# Altium footprint library SMD_Passive.PcbLib: 18 footprints (part 1 of 2)
Each footprint in its own frame and in the unit in brackets; x right, y up, seen from the top. Pads: shape width x height; smd on the part's side, far side on the other; paste and mask are expansions set on the pad; w line width, h text height; cw(c..) or ccw(c..) is an arc to the next point about the centre after c.
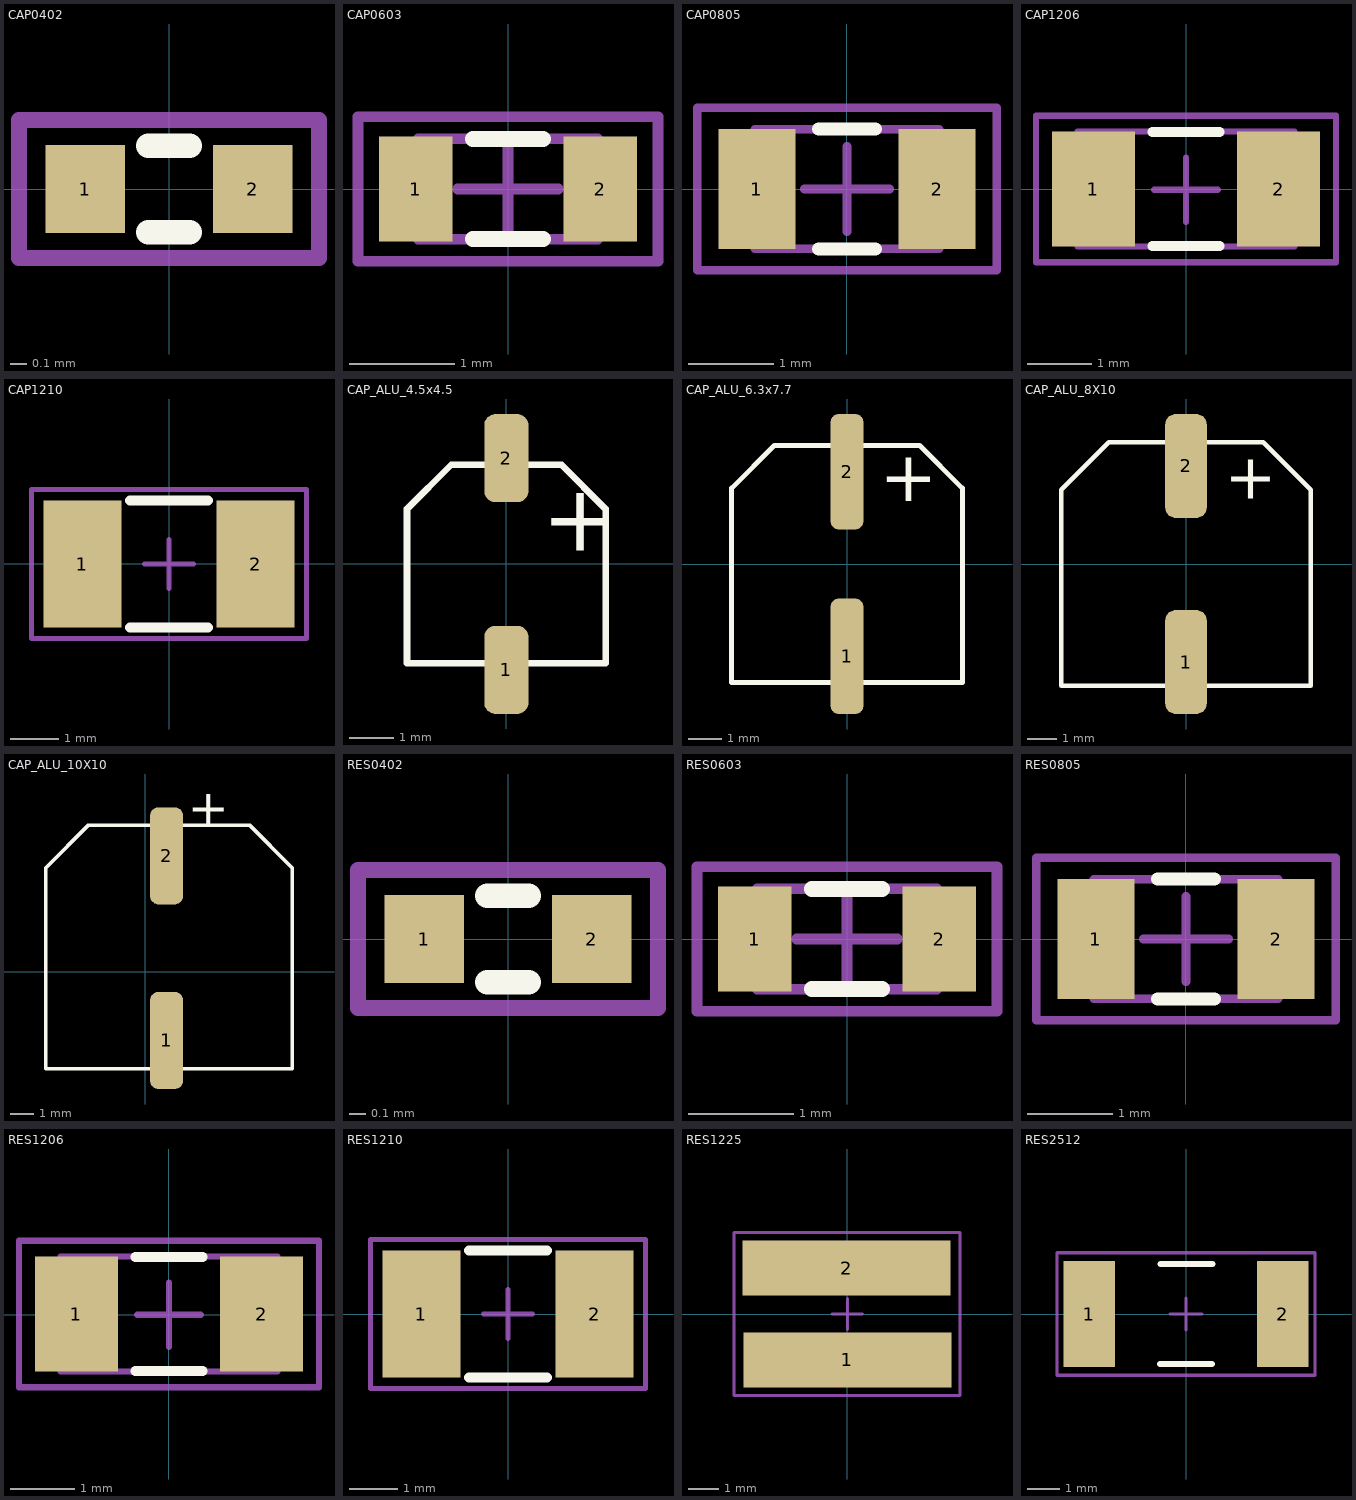
[diagram p0: the footprints below, top view; thin cyan lines are the x and y axes]

## CAP0402 [mm] "Chip Capacitor; Body 1.0 x 0.5 mm (LxW typ)"
height 0.55
pads (2):
  rect 0.5x0.55 smd: 1(-0.525,0) 2(0.525,0)
Top Overlay:
  lines w0.152: -0.13,-0.272 0.13,-0.272 ; -0.13,0.272 0.13,0.272
Mechanical 15:
  lines w0.1: -0.94,-0.432 0.94,-0.432 0.94,0.432 -0.94,0.432 -0.94,-0.432
3D body "User Library-0402(1005M) Cap.step": height 0.51, standoff 0, extent -0.508,-0.254 0.508,0.254

## CAP0603 [mm] "Chip Capacitor, Body 1.6x0.8mm, IPC Medium Density"
height 0.85
pads (2):
  rect 0.7x1 smd: 1(-0.875,0) 2(0.875,0)
Top Overlay:
  lines w0.152: -0.33,-0.475 0.33,-0.475 ; -0.33,0.475 0.33,0.475
Mechanical 13:
  lines w0.1: -0.85,-0.475 0.85,-0.475 0.85,0.475 -0.85,0.475 -0.85,-0.475
Mechanical 15:
  lines w0.1: -0.475,0 0.475,0 ; 0,-0.475 0,0.475 ; -1.422,-0.686 1.422,-0.686 1.422,0.686 -1.422,0.686 -1.422,-0.686
3D body "User Library-0603(1608M) Cap.step": height 0.79, standoff 0, extent -1,-0.394 1,0.394

## CAP0805 [mm] "Chip Capacitor, Body 2.0x1.3mm, IPC Medium Density"
height 1.1
pads (2):
  rect 0.9x1.4 smd: 1(-1.052,0) 2(1.052,0)
Top Overlay:
  lines w0.152: -0.33,-0.704 0.33,-0.704 ; -0.33,0.704 0.33,0.704
Mechanical 13:
  lines w0.1: -1.075,-0.7 1.075,-0.7 1.075,0.7 -1.075,0.7 -1.075,-0.7
Mechanical 15:
  lines w0.1: -0.5,0 0.5,0 ; 0,-0.5 0,0.5 ; -1.75,-0.95 1.75,-0.95 1.75,0.95 -1.75,0.95 -1.75,-0.95
3D body "User Library-0805(2012M) Cap.step": height 0.79, standoff 0, extent -1.254,-0.622 1.254,0.622

## CAP1206 [mm] "Chip Capacitor, Body 3.2x1.6mm, IPC Medium Density"
height 1.35
pads (2):
  rect 1.3x1.8 smd: 1(-1.45,0) 2(1.45,0)
Top Overlay:
  lines w0.152: -0.53,-0.894 0.53,-0.894 ; -0.53,0.894 0.53,0.894
Mechanical 13:
  lines w0.1: -1.7,-0.9 -1.7,0.9 1.7,0.9 1.7,-0.9 -1.7,-0.9
Mechanical 15:
  lines w0.1: -0.5,-0.013 0.5,-0.013 ; 0,-0.513 0,0.487 ; -2.35,-1.15 -2.35,1.15 2.35,1.15 2.35,-1.15 -2.35,-1.15
3D body "SW3dPS-1206 SMD Capacitor.STEP": height 1, standoff 0, extent -1.6,-0.813 1.6,0.787

## CAP1210 [mm] "Chip Capacitor, Body 3.2x2.5mm, IPC Medium Density"
height 1.9
pads (2):
  rect 1.6x2.6 smd: 1(-1.776,0) 2(1.776,0)
Top Overlay:
  lines w0.2: -0.8,-1.3 0.8,-1.3 ; -0.8,1.3 0.8,1.3
Mechanical 15:
  lines w0.1: -0.5,0 0.5,0 ; 0,-0.5 0,0.5 ; -2.819,-1.524 2.819,-1.524 2.819,1.524 -2.819,1.524 -2.819,-1.524
3D body "User Library-1210(3225M) Cap.step": height 1.7, standoff 0, extent -2,-1.245 2,1.245

## CAP_ALU_4.5x4.5 [mm] "Electrolytic Cap"
pads (2):
  rrect50% 1x2 smd: 1(0,-2.4) 2(0,2.4)
Top Overlay:
  lines w0.152: -2.25,-2.25 2.25,-2.25 2.25,1.25 1.25,2.25 -1.25,2.25 -2.25,1.25 -2.25,-2.25
  text "+" at 0.8,0.3 h1.52
3D body "User Library-ALU-B.STEP": height 5.4, standoff 0, extent -2.15,-2.264 2.15,2.336

## CAP_ALU_6.3x7.7 [mm] "Electrolytic Cap (ref. WE 865080445010)"
pads (2):
  rrect50% 1x3.5 smd: 1(0,-2.8) 2(0,2.8)
Top Overlay:
  lines w0.152: -3.5,-3.6 3.5,-3.6 3.5,2.3 2.2,3.6 -2.2,3.6 -3.5,2.3 -3.5,-3.6
  text "+" at 1,1.9 h1.52
3D body "User Library-CAP_EEE_D8.SLDPRT": height 8.05, standoff 0, extent -3.403,-3.896 3.405,3.902

## CAP_ALU_8X10 [mm] "Electrolytic Cap (ref. WE 865080445010)"
pads (2):
  rrect50% 1.4x3.5 smd: 1(0,-3.3) 2(0,3.3)
Top Overlay:
  lines w0.152: -4.2,-4.1 4.2,-4.1 4.2,2.5 2.6,4.1 -2.6,4.1 -4.2,2.5 -4.2,-4.1
  text "+" at 1.3,2.2 h1.52
3D body "User Library-ALU-E.STEP": height 6.2, standoff 0, extent -4.183,-4.534 4.117,4.466

## CAP_ALU_10X10 [mm] "Electrolytic Cap (ref. WE 865080445010)"
pads (2):
  rrect50% 1.4x4.1 smd: 1(0.9,-2.9) 2(0.9,4.9)
Top Overlay:
  lines w0.152: -4.2,-4.1 6.2,-4.1 6.2,4.4 4.4,6.2 -2.4,6.2 -4.2,4.4 -4.2,-4.1
  text "+" at 1.8,6.2 h1.52
3D body "User Library-CC1010.STEP": height 10.41, standoff 0, extent -4.2,-4.5 6.2,6.5

## RES0402 [mm]
height 0.55
pads (2):
  rect 0.5x0.55 smd: 1(-0.525,0) 2(0.525,0)
Top Overlay:
  lines w0.152: -0.13,-0.272 0.13,-0.272 ; -0.13,0.272 0.13,0.272
Mechanical 15:
  lines w0.1: -0.94,-0.432 0.94,-0.432 0.94,0.432 -0.94,0.432 -0.94,-0.432
3D body "User Library-0402(1005M) Res.step": height 0.51, standoff 0, extent -0.499,-0.254 0.517,0.254

## RES0603 [mm] "Chip Resistor, Body 1.6x0.8mm, IPC Medium Density"
height 0.6
pads (2):
  rect 0.7x1 smd: 1(-0.875,0) 2(0.875,0)
Top Overlay:
  lines w0.152: -0.33,-0.475 0.33,-0.475 ; -0.33,0.475 0.33,0.475
Mechanical 13:
  lines w0.1: -0.85,-0.475 -0.85,0.475 0.85,0.475 0.85,-0.475 -0.85,-0.475
Mechanical 15:
  lines w0.1: -0.475,0 0.475,0 ; 0,-0.475 0,0.475 ; -1.422,-0.686 -1.422,0.686 1.422,0.686 1.422,-0.686 -1.422,-0.686
3D body "User Library-0603(1608M) Res.step": height 0.79, standoff 0, extent -1,-0.406 1,0.381

## RES0805 [mm] "Chip Resistor, Body 2.0x1.3mm, IPC Medium Density"
height 0.65
pads (2):
  rect 0.9x1.4 smd: 1(-1.052,0) 2(1.052,0)
Top Overlay:
  lines w0.152: -0.33,-0.704 0.33,-0.704 ; -0.33,0.704 0.33,0.704
Mechanical 13:
  lines w0.1: -1.075,-0.7 1.075,-0.7 1.075,0.7 -1.075,0.7 -1.075,-0.7
Mechanical 15:
  lines w0.1: -0.5,0 0.5,0 ; 0,-0.5 0,0.5 ; -1.75,-0.95 1.75,-0.95 1.75,0.95 -1.75,0.95 -1.75,-0.95
3D body "User Library-0805(2012M) Res.STEP": height 0.79, standoff 0, extent -1.254,-0.622 1.254,0.622

## RES1206 [mm]
pads (2):
  rect 1.3x1.8 smd: 1(-1.45,0.013) 2(1.45,0.013)
Top Overlay:
  lines w0.152: -0.53,-0.881 0.53,-0.881 ; -0.53,0.907 0.53,0.907
Mechanical 13:
  lines w0.1: -1.7,-0.887 1.7,-0.887 1.7,0.913 -1.7,0.913 -1.7,-0.887
Mechanical 15:
  lines w0.1: -0.5,0 0.5,0 ; 0,-0.5 0,0.5 ; -2.35,-1.137 2.35,-1.137 2.35,1.163 -2.35,1.163 -2.35,-1.137
3D body "User Library-1206 SMD Resistor.step": height 1, standoff 0, extent -1.6,-0.8 1.6,0.8

## RES1210 [mm]
pads (2):
  rect 1.6x2.6 smd: 1(-1.776,0) 2(1.776,0)
Top Overlay:
  lines w0.2: -0.8,-1.3 0.8,-1.3 ; -0.8,1.3 0.8,1.3
Mechanical 15:
  lines w0.1: -0.5,0 0.5,0 ; 0,-0.5 0,0.5 ; -2.819,-1.524 -2.819,1.524 2.819,1.524 2.819,-1.524 -2.819,-1.524
3D body "User Library-1210(3225M) Res.step": height 1.7, standoff 0, extent -2,-1.244 2,1.245

## RES1225 [mm]
pads (2):
  rect 6.8x1.8 smd: 1(0,-1.5) 2(-0.025,1.5)
Top Overlay:
  lines w0.2: -0.8,-1.55 0.8,-1.55 ; -0.787,1.55 0.813,1.55
Mechanical 15:
  lines w0.1: -0.5,0 0.5,0 ; 0,-0.5 0,0.5 ; -3.708,-2.667 3.683,-2.667 3.683,2.667 -3.708,2.667 -3.708,-2.667
3D body "User Library-wk733a.step": height 0.57, standoff -0.04, extent -3.202,-1.525 3.098,1.575

## RES2512 [mm]
pads (2):
  rect 1.6x3.3 smd: 1(-3,0) 2(3,0)
Top Overlay:
  lines w0.2: -0.8,-1.55 0.8,-1.55 ; -0.787,1.55 0.813,1.55
Mechanical 15:
  lines w0.1: -0.5,0 0.5,0 ; 0,-0.5 0,0.5 ; -4,-1.9 -4,1.9 4,1.9 4,-1.9 -4,-1.9
3D body "User Library-2512 SMD Resistor.step": height 1.6, standoff 0, extent -3.2,-1.5 3.15,1.5